# EAGLE library part AT90*2343 (library atmel)
MICROCONTROLLER 2 Kbytes FLASH 128 bytes SRAM 128 bytes EEPROM
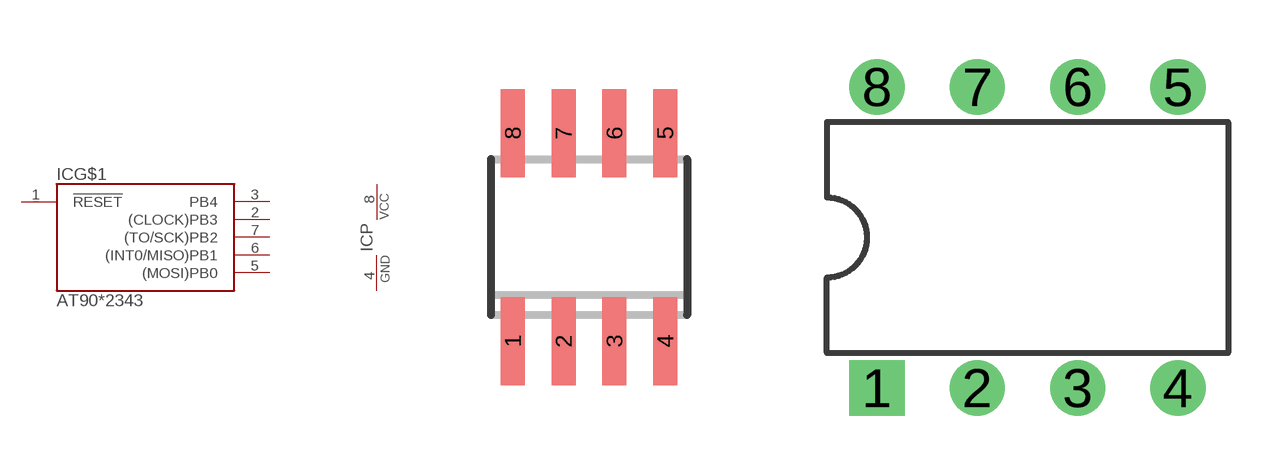
[diagram p20: symbol with the pads of SO8; footprints SO8, DIL08]

Designator prefix IC; gates G$1=5-I/O-1 P=PWR

## AT90LS2343S, AT90S2343S  [SO8]
1  G$1:!RESET  in
2  G$1:(CLOCK)PB3
3  G$1:PB4
4  P:GND  pwr
5  G$1:(MOSI)PB0
6  G$1:(INT0/MISO)PB1
7  G$1:(TO/SCK)PB2
8  P:VCC  pwr

## AT90LS2343P, AT90S2343P  [DIL08]
Pads as for SO8

## Footprint SO8 (pad centres in mm)
Small Outline IC, 150mil body width, 50mil lead pitch package/pad dimensions according to IPC-SM-782, RLP No. 300A JEDEC: MS-012 AA IPC: SO8 other notations: SO-8, SO08, SO-08, SOIC8, SOIC-8, SOIC08, SOIC-08
smd 0.6 x 2.2: 1 -1.905,-2.6; 2 -0.635,-2.6; 3 0.635,-2.6; 4 1.905,-2.6; 5 1.905,2.6; 6 0.635,2.6; 7 -0.635,2.6; 8 -1.905,2.6

## Footprint DIL08 (pad centres in mm)
DIL package, pin row distance 300mil
drill 0.8 pad 1.4 square: 1 -3.81,-3.81
drill 0.8 pad 1.4: 2 -1.27,-3.81; 3 1.27,-3.81; 4 3.81,-3.81; 5 3.81,3.81; 6 1.27,3.81; 7 -1.27,3.81; 8 -3.81,3.81